# Altium footprint library EVQPUA.PcbLib: 1 footprints
Each footprint in its own frame and in the unit in brackets; x right, y up, seen from the top. Pads: shape width x height; smd on the part's side, far side on the other; paste and mask are expansions set on the pad; w line width, h text height; cw(c..) or ccw(c..) is an arc to the next point about the centre after c.
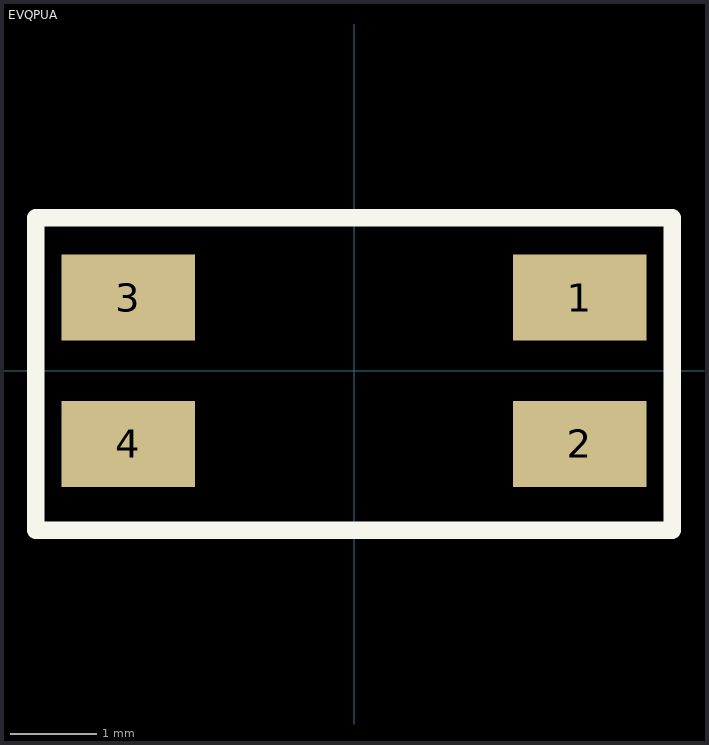
[diagram p0: the footprint, top view; thin cyan lines are the x and y axes]

## EVQPUA [mm] "Light Touch Switches/EVQPU"
height 1.65
pads (4):
  rect 1.55x1 smd: 1(2.625,0.85) 2(2.625,-0.85) 3(-2.625,0.85) 4(-2.625,-0.85)
Top Overlay:
  lines w0.2: -3.7,-1.855 3.7,-1.855 3.7,1.78 -3.7,1.78 -3.7,-1.855
3D body "EVQPU-JA-02K.STEP": height 1.65, standoff 0, extent -3.2,-2.76 3.2,1.78